# Altium schematic symbol library RF-ANTENNA.SCHLIB: 1 symbol
Pins are listed as number, name and electrical type; pins without a type are passive.

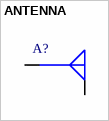
[diagram p0: symbol ANTENNA]

## ANTENNA
designator A?  (net tie, no BOM)
pins: 0, 1